# EAGLE library part SENS_ACCEL_MXD6235M (library fab2)
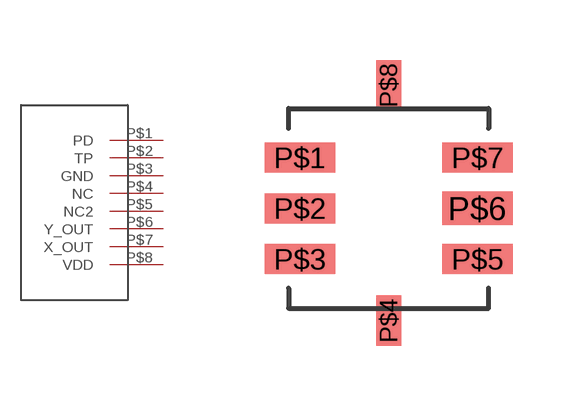
[diagram p9: symbol with the pads of 8-LCC; footprint 8-LCC]

Designator prefix -

## SENS_ACCEL_MXD6235M-SMD  [8-LCC]
P$1  PD
P$2  TP
P$3  GND  pwr
P$4  NC  nc
P$5  NC2  nc
P$6  Y_OUT
P$7  X_OUT
P$8  VDD  pwr

## Footprint 8-LCC (pad centres in mm)
smd 1.77 x 0.75: P$1 -2.22,1.27; P$2 -2.22,0; P$3 -2.22,-1.27; P$5 2.22,-1.27; P$7 2.22,1.27
smd 0.635 x 1.27: P$4 0,-2.81; P$8 0,3.08
smd 1.77 x 0.84: P$6 2.22,0